# Altium integrated library Electromechanical.IntLib: 1 symbol
Pins are listed as number, name and electrical type; pins without a type are passive.

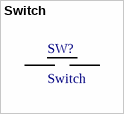
[diagram p0: symbol Switch]

## Switch
designator SW?
Manufacturer Part No.: PTS645SM43SMTR92 LFS; Digi-Key Part No.: CKN9112CT-ND
footprint TACT_SWITCH
footprint Amazon THT Switch
pins: 1, 2 hidden to 1, 3, 4 hidden to 4